# EAGLE library part IT8152F (library ite-it81xx)
IT8152F PCI bridge and multifunction system IC for StrongARM SA1100 and SA1110
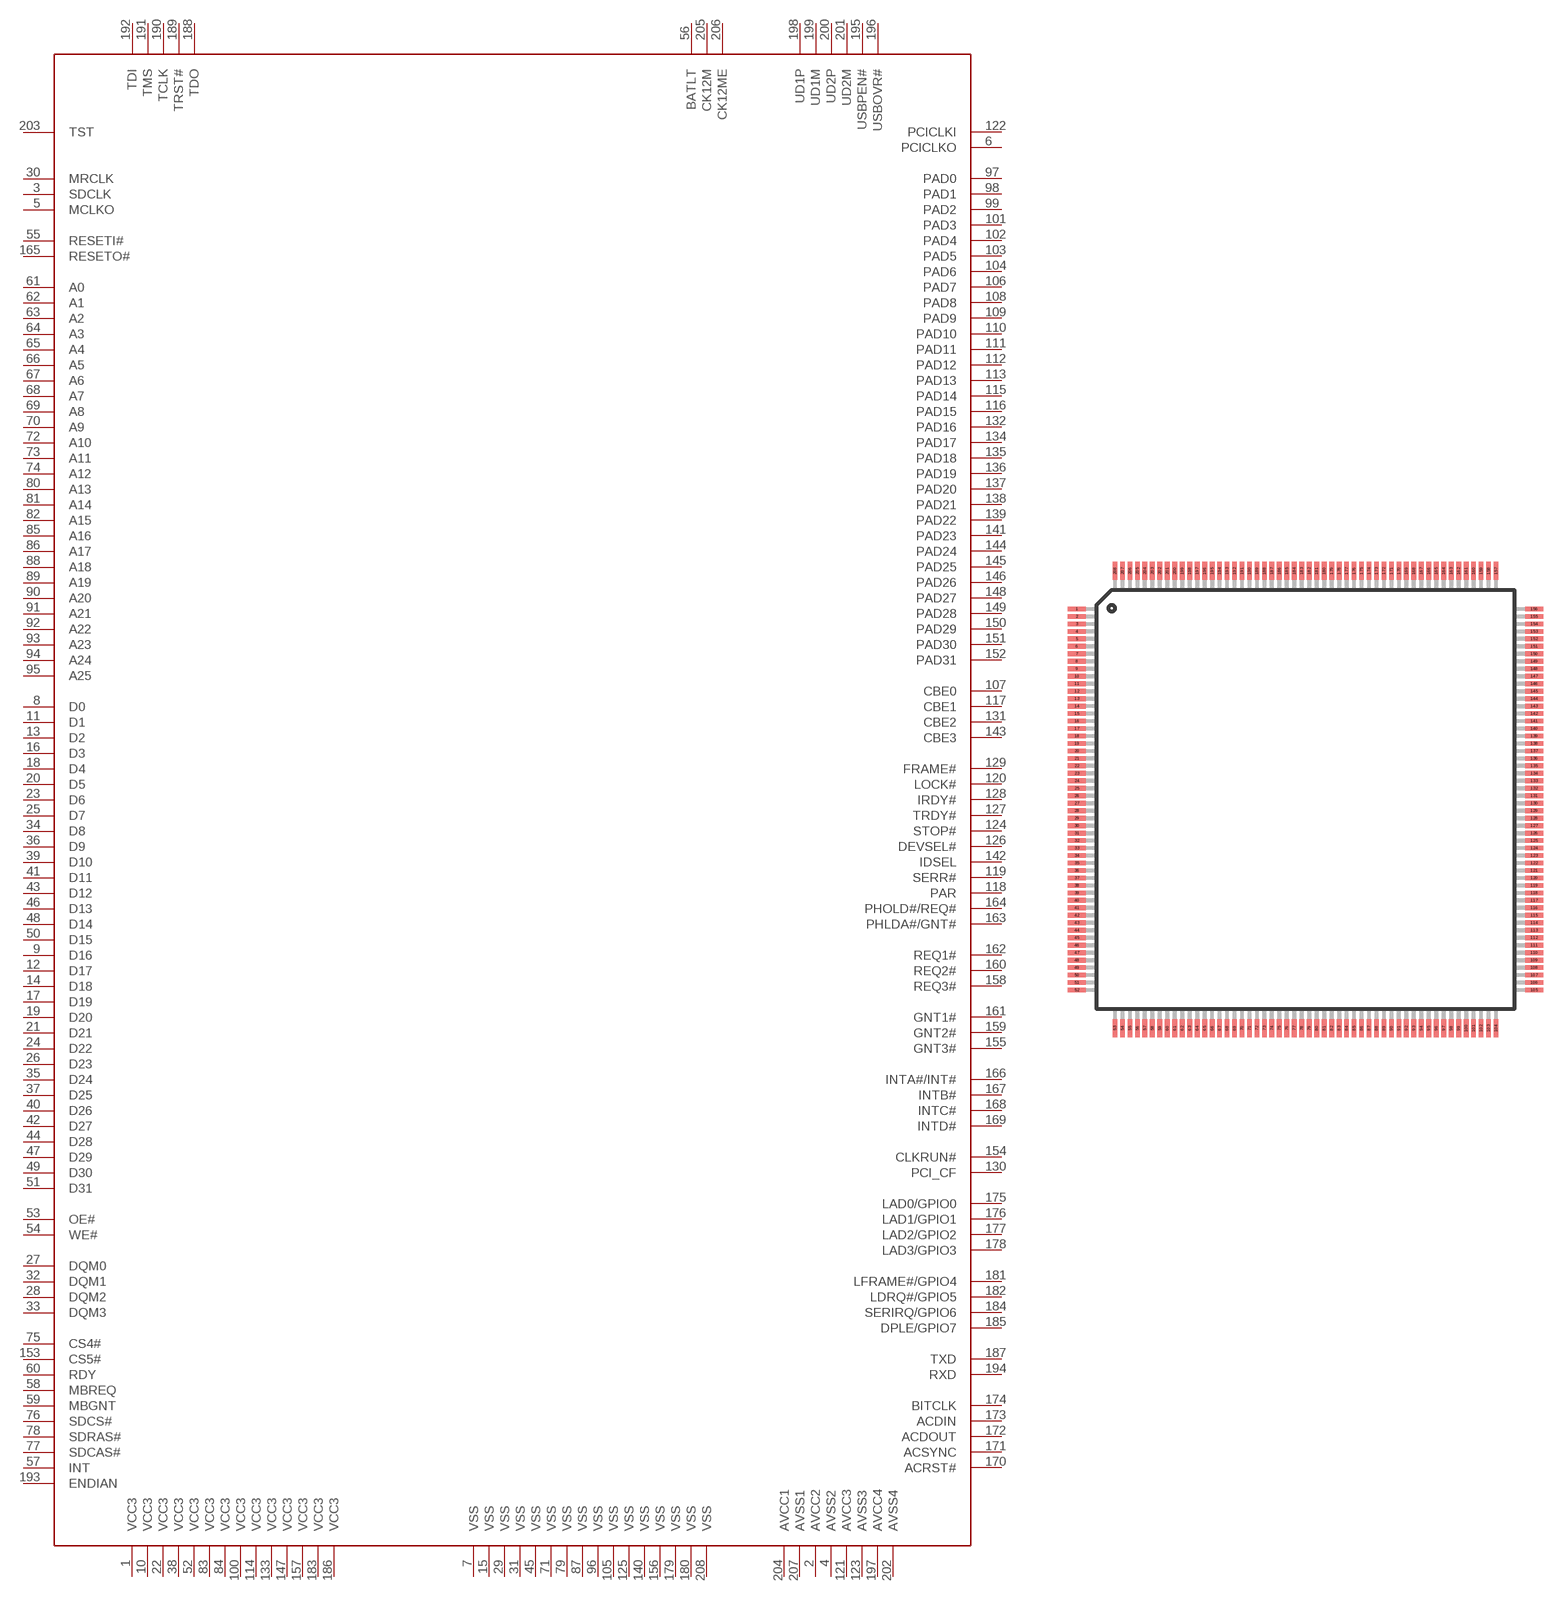
[diagram p0: symbol with the pads of PQFP208; footprint PQFP208]

Designator prefix -

## IT8152FQFP208  [PQFP208]
1  VCC3  pwr
2  AVCC2  pwr
3  SDCLK  out
4  AVSS2  pwr
5  MCLKO  out
6  PCICLKO  out
7  VSS  pwr
8  D0
9  D16
10  VCC3  pwr
11  D1
12  D17
13  D2
14  D18
15  VSS  pwr
16  D3
17  D19
18  D4
19  D20
20  D5
21  D21
22  VCC3  pwr
23  D6
24  D22
25  D7
26  D23
27  DQM0
28  DQM2
29  VSS  pwr
30  MRCLK  in
31  VSS  pwr
32  DQM1
33  DQM3
34  D8
35  D24
36  D9
37  D25
38  VCC3  pwr
39  D10
40  D26
41  D11
42  D27
43  D12
44  D28
45  VSS  pwr
46  D13
47  D29
48  D14
49  D30
50  D15
51  D31
52  VCC3  pwr
53  OE#  in
54  WE#
55  RESETI#  in
56  BATLT  in
57  INT  out
58  MBREQ  out
59  MBGNT  in
60  RDY  out
61  A0
62  A1
63  A2
64  A3
65  A4
66  A5
67  A6
68  A7
69  A8
70  A9
71  VSS  pwr
72  A10
73  A11
74  A12
75  CS4#  in
76  SDCS#  out
77  SDCAS#  out
78  SDRAS#  out
79  VSS  pwr
80  A13
81  A14
82  A15
83  VCC3  pwr
84  VCC3  pwr
85  A16
86  A17
87  VSS  pwr
88  A18
89  A19
90  A20
91  A21
92  A22
93  A23
94  A24
95  A25
96  VSS  pwr
97  PAD0
98  PAD1
99  PAD2
100  VCC3  pwr
101  PAD3
102  PAD4
103  PAD5
104  PAD6
105  VSS  pwr
106  PAD7
107  CBE0
108  PAD8
109  PAD9
110  PAD10
111  PAD11
112  PAD12
113  PAD13
114  VCC3  pwr
115  PAD14
116  PAD15
117  CBE1
118  PAR
119  SERR#  in
120  LOCK#
121  AVCC3  pwr
122  PCICLKI  in
123  AVSS3  pwr
124  STOP#
125  VSS  pwr
126  DEVSEL#
127  TRDY#
128  IRDY#
129  FRAME#
130  PCI_CF  in
131  CBE2
132  PAD16
133  VCC3  pwr
134  PAD17
135  PAD18
136  PAD19
137  PAD20
138  PAD21
139  PAD22
140  VSS  pwr
141  PAD23
142  IDSEL  in
143  CBE3
144  PAD24
145  PAD25
146  PAD26
147  VCC3  pwr
148  PAD27
149  PAD28
150  PAD29
151  PAD30
152  PAD31
153  CS5#  in
154  CLKRUN#
155  GNT3#  out
156  VSS  pwr
157  VCC3  pwr
158  REQ3#  in
159  GNT2#  out
160  REQ2#  in
161  GNT1#  out
162  REQ1#  in
163  PHLDA#/GNT#
164  PHOLD#/REQ#
165  RESETO#  out
166  INTA#/INT#
167  INTB#  in
168  INTC#  in
169  INTD#  in
170  ACRST#  out
171  ACSYNC  out
172  ACDOUT  out
173  ACDIN  in
174  BITCLK  in
175  LAD0/GPIO0
176  LAD1/GPIO1
177  LAD2/GPIO2
178  LAD3/GPIO3
179  VSS  pwr
180  VSS  pwr
181  LFRAME#/GPIO4
182  LDRQ#/GPIO5
183  VCC3  pwr
184  SERIRQ/GPIO6
185  DPLE/GPIO7
186  VCC3  pwr
187  TXD  out
188  TDO  out
189  TRST#  in
190  TCLK  in
191  TMS  in
192  TDI  in
193  ENDIAN  in
194  RXD  in
195  USBPEN#  out
196  USBOVR#  in
197  AVCC4  pwr
198  UD1P
199  UD1M
200  UD2P
201  UD2M
202  AVSS4  pwr
203  TST  in
204  AVCC1  pwr
205  CK12M  in
206  CK12ME
207  AVSS1  pwr
208  VSS  pwr

## Footprint PQFP208 (pad centres in mm)
PQFP208 208-Pin Plastic Quad Flat Pack
smd 1.2 x 0.32: 1 -15.3,12.75; 2 -15.3,12.25; 3 -15.3,11.75; 4 -15.3,11.25; 5 -15.3,10.75; 6 -15.3,10.25; 7 -15.3,9.75; 8 -15.3,9.25; 9 -15.3,8.75; 10 -15.3,8.25; 11 -15.3,7.75; 12 -15.3,7.25; 13 -15.3,6.75; 14 -15.3,6.25; 15 -15.3,5.75; 16 -15.3,5.25; 17 -15.3,4.75; 18 -15.3,4.25; 19 -15.3,3.75; 20 -15.3,3.25; 21 -15.3,2.75; 22 -15.3,2.25; 23 -15.3,1.75; 24 -15.3,1.25; 25 -15.3,0.75; 26 -15.3,0.25; 27 -15.3,-0.25; 28 -15.3,-0.75; 29 -15.3,-1.25; 30 -15.3,-1.75; 31 -15.3,-2.25; 32 -15.3,-2.75; 33 -15.3,-3.25; 34 -15.3,-3.75; 35 -15.3,-4.25; 36 -15.3,-4.75; 37 -15.3,-5.25; 38 -15.3,-5.75; 39 -15.3,-6.25; 40 -15.3,-6.75; 41 -15.3,-7.25; 42 -15.3,-7.75; 43 -15.3,-8.25; 44 -15.3,-8.75; 45 -15.3,-9.25; 46 -15.3,-9.75; 47 -15.3,-10.25; 48 -15.3,-10.75; 49 -15.3,-11.25; 50 -15.3,-11.75; 51 -15.3,-12.25; 52 -15.3,-12.75; 105 15.3,-12.75; 106 15.3,-12.25; 107 15.3,-11.75; 108 15.3,-11.25; 109 15.3,-10.75; 110 15.3,-10.25; 111 15.3,-9.75; 112 15.3,-9.25; 113 15.3,-8.75; 114 15.3,-8.25; 115 15.3,-7.75; 116 15.3,-7.25; 117 15.3,-6.75; 118 15.3,-6.25; 119 15.3,-5.75; 120 15.3,-5.25; 121 15.3,-4.75; 122 15.3,-4.25; 123 15.3,-3.75; 124 15.3,-3.25; 125 15.3,-2.75; 126 15.3,-2.25; 127 15.3,-1.75; 128 15.3,-1.25; 129 15.3,-0.75; 130 15.3,-0.25; 131 15.3,0.25; 132 15.3,0.75; 133 15.3,1.25; 134 15.3,1.75; 135 15.3,2.25; 136 15.3,2.75; 137 15.3,3.25; 138 15.3,3.75; 139 15.3,4.25; 140 15.3,4.75; 141 15.3,5.25; 142 15.3,5.75; 143 15.3,6.25; 144 15.3,6.75; 145 15.3,7.25; 146 15.3,7.75; 147 15.3,8.25; 148 15.3,8.75; 149 15.3,9.25; 150 15.3,9.75; 151 15.3,10.25; 152 15.3,10.75; 153 15.3,11.25; 154 15.3,11.75; 155 15.3,12.25; 156 15.3,12.75
smd 0.32 x 1.2: 53 -12.75,-15.3; 54 -12.25,-15.3; 55 -11.75,-15.3; 56 -11.25,-15.3; 57 -10.75,-15.3; 58 -10.25,-15.3; 59 -9.75,-15.3; 60 -9.25,-15.3; 61 -8.75,-15.3; 62 -8.25,-15.3; 63 -7.75,-15.3; 64 -7.25,-15.3; 65 -6.75,-15.3; 66 -6.25,-15.3; 67 -5.75,-15.3; 68 -5.25,-15.3; 69 -4.75,-15.3; 70 -4.25,-15.3; 71 -3.75,-15.3; 72 -3.25,-15.3; 73 -2.75,-15.3; 74 -2.25,-15.3; 75 -1.75,-15.3; 76 -1.25,-15.3; 77 -0.75,-15.3; 78 -0.25,-15.3; 79 0.25,-15.3; 80 0.75,-15.3; 81 1.25,-15.3; 82 1.75,-15.3; 83 2.25,-15.3; 84 2.75,-15.3; 85 3.25,-15.3; 86 3.75,-15.3; 87 4.25,-15.3; 88 4.75,-15.3; 89 5.25,-15.3; 90 5.75,-15.3; 91 6.25,-15.3; 92 6.75,-15.3; 93 7.25,-15.3; 94 7.75,-15.3; 95 8.25,-15.3; 96 8.75,-15.3; 97 9.25,-15.3; 98 9.75,-15.3; 99 10.25,-15.3; 100 10.75,-15.3; 101 11.25,-15.3; 102 11.75,-15.3; 103 12.25,-15.3; 104 12.75,-15.3; 157 12.75,15.3; 158 12.25,15.3; 159 11.75,15.3; 160 11.25,15.3; 161 10.75,15.3; 162 10.25,15.3; 163 9.75,15.3; 164 9.25,15.3; 165 8.75,15.3; 166 8.25,15.3; 167 7.75,15.3; 168 7.25,15.3; 169 6.75,15.3; 170 6.25,15.3; 171 5.75,15.3; 172 5.25,15.3; 173 4.75,15.3; 174 4.25,15.3; 175 3.75,15.3; 176 3.25,15.3; 177 2.75,15.3; 178 2.25,15.3; 179 1.75,15.3; 180 1.25,15.3; 181 0.75,15.3; 182 0.25,15.3; 183 -0.25,15.3; 184 -0.75,15.3; 185 -1.25,15.3; 186 -1.75,15.3; 187 -2.25,15.3; 188 -2.75,15.3; 189 -3.25,15.3; 190 -3.75,15.3; 191 -4.25,15.3; 192 -4.75,15.3; 193 -5.25,15.3; 194 -5.75,15.3; 195 -6.25,15.3; 196 -6.75,15.3; 197 -7.25,15.3; 198 -7.75,15.3; 199 -8.25,15.3; 200 -8.75,15.3; 201 -9.25,15.3; 202 -9.75,15.3; 203 -10.25,15.3; 204 -10.75,15.3; 205 -11.25,15.3; 206 -11.75,15.3; 207 -12.25,15.3; 208 -12.75,15.3